# Altium footprint library adafruit.PCBLIB: 630 footprints (part 22 of 40)
Each footprint in its own frame and in the unit in brackets; x right, y up, seen from the top. Pads: shape width x height; smd on the part's side, far side on the other; paste and mask are expansions set on the pad; w line width, h text height; cw(c..) or ccw(c..) is an arc to the next point about the centre after c.
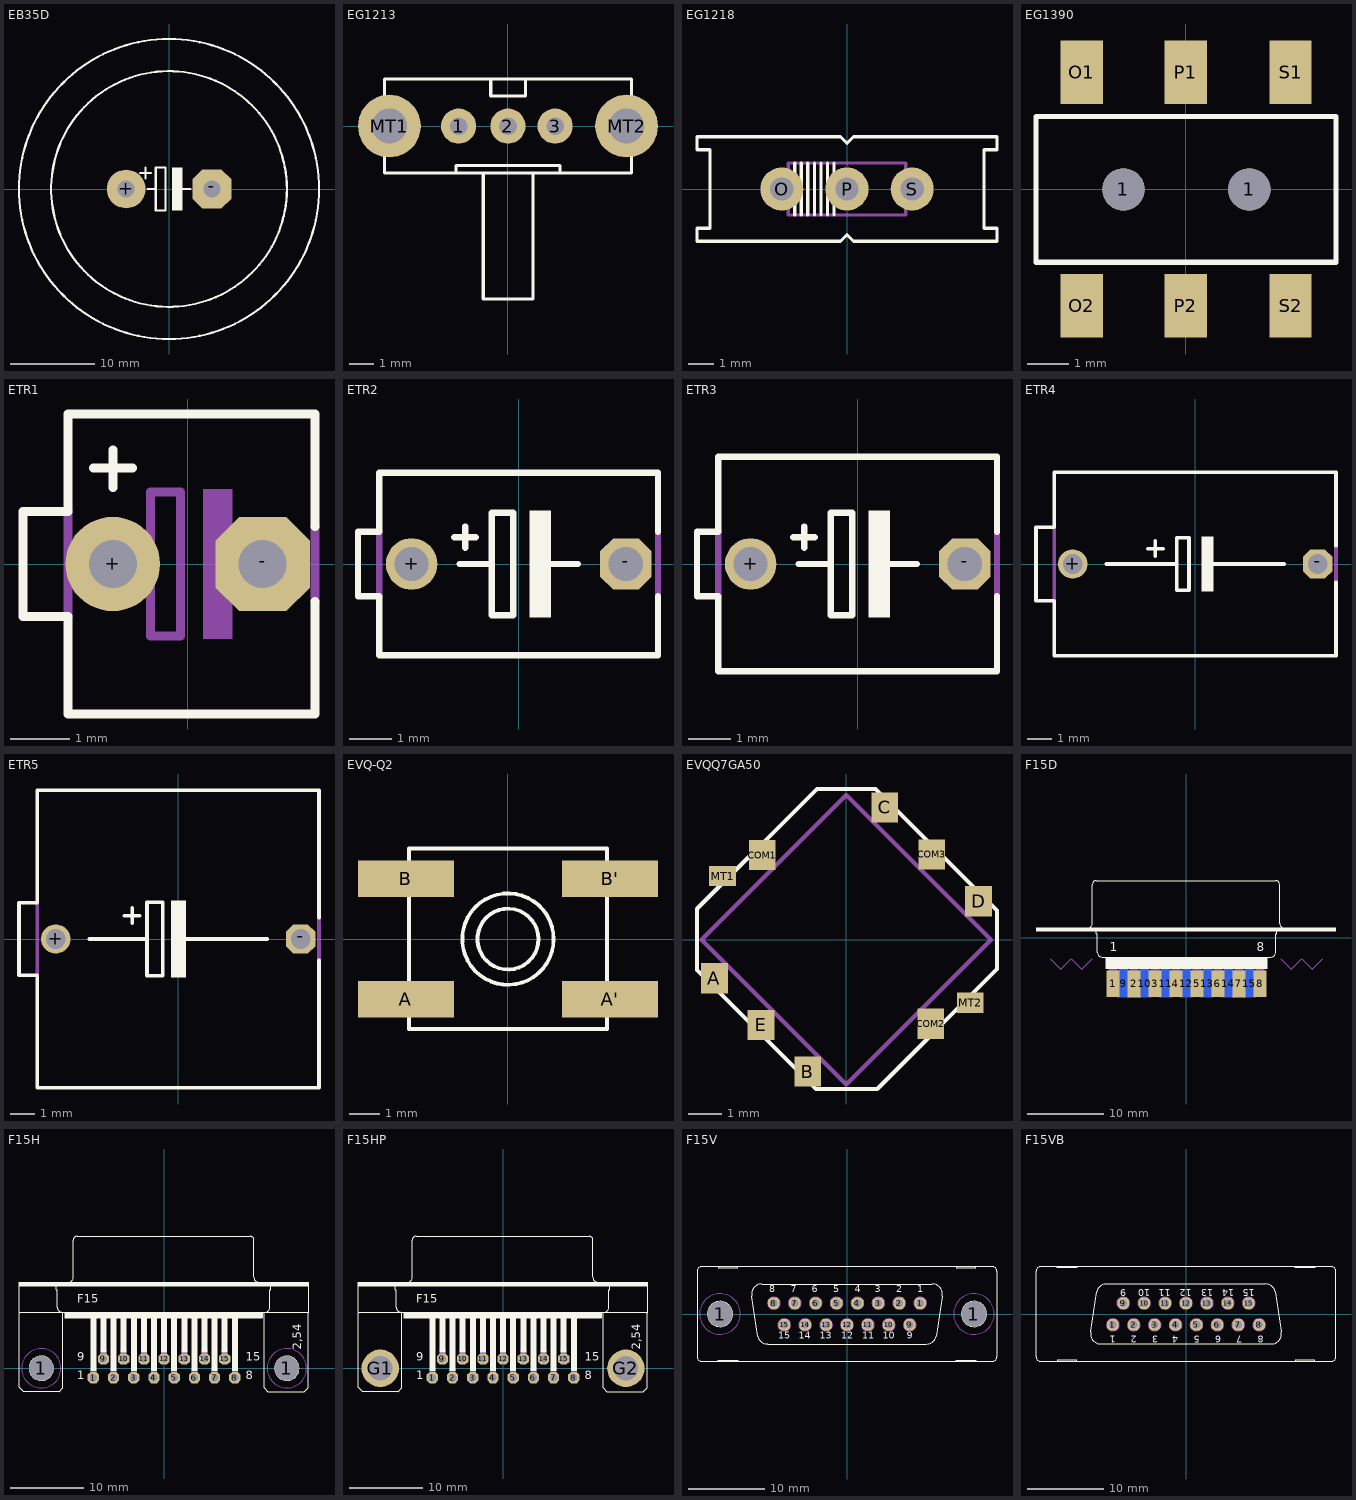
[diagram p21: the footprints below, top view; thin cyan lines are the x and y axes]

## EB35D [mil]
pads (2):
  round 181 hole 79: +(-200,0)
  oct 181x181 hole 79: -(200,0)
Top Overlay:
  circle w10: c0,0 r700
  circle w10: c0,0 r550
  rectangle: 13,-100 63,100
  lines w10: -135,75 -85,75 ; -110,50 -110,100 ; -100,0 -62,0 ; 55,0 100,0 ; -62,0 -62,100 -17,100 -17,-100 -62,-100 -62,0

## EG1213 [mil]
pads (5):
  round 56 hole 28: 1(-78.74,0) 2(0,0) 3(75,0)
  round 100 hole 56: MT1(-188.98,0) MT2(189,0)
Top Overlay:
  lines w5: -82.68,-74.8 -39.37,-74.8 ; -82.68,-74.8 -196.85,-74.8 -196.85,75 -27.56,75 ; -82.68,-74.8 -82.68,-62.99 83,-62.99 83,-74.8 ; -39.37,-74.8 40,-74.8 ; -39.37,-74.8 -39.37,-275.59 40,-275.59 40,-74.8 ; -27.56,75 28,75 ; -27.56,75 -27.56,48 28,48 28,75 ; 28,75 197,75 197,-74.8 83,-74.8 ; 40,-74.8 83,-74.8

## EG1218 [mil]
pads (3):
  round 66 hole 36: O(-100,0) P(0,0) S(100,0)
Top Overlay:
  lines w5: -80,-40 -80,40 ; -70,-40 -70,40 ; -60,-40 -60,40 ; -50,-40 -50,40 ; -40,-40 -40,40 ; -30,-40 -30,40 ; -20,-40 -20,40 ; -230,-80 -10,-80 0,-70 10,-80 230,-80 230,-60 210,-60 210,60 230,60 230,80 10,80 0,70 -10,80 -230,80 -230,60 -210,60 -210,-60 -230,-60 -230,-80
Mechanical 2:
  lines w5: -90,-40 90,-40 90,40 -90,40 -90,-40

## EG1390 [mil]
pads (8):
  round 40 hole 40: 1(-59.06,0) 1(60,0)
  rect 40x60 smd: O1(-98.43,111) O2(-98.43,-110.24) P1(0,111) P2(0,-110.24) S1(99,111) S2(99,-110.24)
Top Overlay:
  lines w5: -141.73,-68.9 142,-68.9 142,69 -141.73,69 -141.73,-68.9

## ETR1 [mil]
pads (2):
  round 63 hole 32: +(-50,0)
  oct 63x63 hole 32: -(50,0)
Top Overlay:
  lines w6: -63,64 -37,64 ; -50,51 -50,76 ; 85,-25 85,-100 -80,-100 -80,-35 -110,-35 -110,35 -80,35 -80,100 85,100 85,25
Mechanical 16:
  rectangle: 10,-50 30,50
  lines w6: -80,-35 -80,35 ; -65,0 -25,0 ; 25,0 65,0 ; 85,-25 85,25 ; -25,0 -25,-48 -5,-48 -5,48 -25,48 -25,0

## ETR2 [mil]
pads (2):
  round 48 hole 32: +(-100,0)
  oct 48x48 hole 32: -(100,0)
Top Overlay:
  rectangle: 10,-50 30,50
  lines w6: -60,25 -40,25 ; -55,0 -25,0 ; -50,15 -50,35 ; 25,0 55,0 ; 130,-30 130,-85 -130,-85 -130,-30 -150,-30 -150,30 -130,30 -130,85 130,85 130,30 ; -25,0 -25,-48 -5,-48 -5,48 -25,48 -25,0
Mechanical 16:
  lines w6: -130,-30 -130,30 ; 130,-30 130,30

## ETR3 [mil]
pads (2):
  round 48 hole 32: +(-100,0)
  oct 48x48 hole 32: -(100,0)
Top Overlay:
  rectangle: 10,-50 30,50
  lines w6: -60,25 -40,25 ; -55,0 -25,0 ; -50,15 -50,35 ; 25,0 55,0 ; 130,-30 130,-100 -130,-100 -130,-30 -150,-30 -150,30 -130,30 -130,100 130,100 130,30 ; -25,0 -25,-48 -5,-48 -5,48 -25,48 -25,0
Mechanical 16:
  lines w6: -130,-30 -130,30 ; 130,-30 130,30

## ETR4 [mil]
pads (2):
  round 48 hole 32: +(-200,0)
  oct 48x48 hole 32: -(200,0)
Top Overlay:
  rectangle: 10,-45 30,45
  lines w6: -145,0 -30,0 ; -77,25 -52,25 ; -65,13 -65,38 ; 20,0 145,0 ; 230,-30 230,-150 -230,-150 -230,-60 -260,-60 -260,60 -230,60 -230,150 230,150 230,30 ; -30,0 -30,43 -10,43 -10,-43 -30,-43 -30,0
Mechanical 16:
  lines w6: -230,-60 -230,60 ; 230,-30 230,30

## ETR5 [mil]
pads (2):
  round 48 hole 32: +(-200,0)
  oct 48x48 hole 32: -(200,0)
Top Overlay:
  rectangle: -12,-63 13,63
  lines w6: -145,0 -51,0 ; -88,38 -63,38 ; -75,26 -75,51 ; 0,0 145,0 ; 230,-35 230,-243 -230,-243 -230,-59 -260,-59 -260,59 -230,59 -230,243 230,243 230,35 ; -51,0 -51,60 -25,60 -25,-60 -51,-60 -51,0
Mechanical 16:
  lines w6: -230,-59 -230,59 ; 230,-35 230,35

## EVQ-Q2 [mil]
pads (4):
  rect 126x48 smd: A(-133.86,-78.74) A'(134,-78.74) B(-133.86,79) B'(134,79)
Top Overlay:
  circle w5: c0,0 r60
  circle w5: c0,0 r40
  lines w5: -129.92,-118.11 130,-118.11 130,119 -129.92,119 -129.92,-118.11

## EVQQ7GA50 [mil]
pads (10):
  rect 32x36 smd: A(-157.29,-45.93) B(-45.93,-157.29) C(46,158) COM1(-100.22,101) COM2(101,-100.22) COM3(102,102) D(158,46) E(-101.61,-101.61)
  rect 32x24 smd: MT1(-147.54,76) MT2(148,-75.16)
Top Overlay:
  lines w5: -178.17,-36.19 -178.17,37 -34.8,180 35,180 180,35 180,-34.8 37,-178.17 -36.19,-178.17 -178.17,-36.19
Mechanical 27:
  lines w5: -172.6,0 0,173 173,0 0,-172.6 -172.6,0

## F15D [mil]
pads (15):
  rect 67x138 smd: 1(-378.01,-237.98) 2(-270,-237.99) 3(-161.99,-237.98) 4(-54.01,-237.98) 5(55,-237.98) 6(162,-237.98) 7(270,-237.99) 8(379,-237.98)
  rect 67x138 smd far side: 9(-324,-238) 10(-216,-238) 11(-108,-238) 12(0,-238) 13(108,-238) 14(216,-238) 15(324,-238)
Top Overlay:
  rectangle: -775,32 770,52
  rectangle: -417.32,-161.42 418,-98.43
  lines w6: -510,48 ccw(c-510,73) -485,73 -485,273 cw(c-465,273) -465,293 460,293 cw(c460,273) 480,273 480,73 ccw(c505,73) 505,48 ; -464,40 -464,20 -459,20 -459,-75 ccw(c-434,-75) -434,-100 ; -434.76,-100 435,-100 ; 434,-100 ccw(c434,-75) 459,-75 459,20 464,20 464,40
  text "1" at -395.07,-85.77 h77.5
  text "8" at 363,-85.77 h77.5
Bottom Overlay:
  text "9" at -302.82,-86.48 h77.5
  text "15" at 341,-86.48 h77.5
Mechanical 13:
  lines w0: -702,-108 -648,-162 -594,-108 -540,-162 -486,-108 ; 486,-108 540,-162 594,-108 648,-162 702,-108
  text "Board" at 504,-100 h77.5
  text "Board" at -704,-100 h77.5
Mechanical 16:
  rectangle: -401.62,-258.27 -354.38,-159.84
  rectangle: -293.62,-258.27 -246.38,-159.84
  rectangle: -185.62,-258.27 -138.38,-159.84
  rectangle: -77.62,-258.27 -30.38,-159.84
  rectangle: 31,-258.27 78,-159.84
  rectangle: 139,-258.27 186,-159.84
  rectangle: 247,-258.27 294,-159.84
  rectangle: 355,-258.27 402,-159.84
  text "F15D" at -462,181 h77.5
Mechanical 30:
  rectangle: -347.62,-258.27 -300.38,-159.84
  rectangle: -239.62,-258.27 -192.38,-159.84
  rectangle: -131.62,-258.27 -84.38,-159.84
  rectangle: -23.62,-258.27 24,-159.84
  rectangle: 85,-258.27 132,-159.84
  rectangle: 193,-258.27 240,-159.84
  rectangle: 301,-258.27 348,-159.84

## F15H [mil]
pads (17):
  round 130 hole 130: 1(-656,0) 1(656,0)
  oct 60x60 hole 40: 1(-378,-50) 2(-270,-50) 3(-162,-50) 4(-54,-50) 5(54,-50) 6(162,-50) 7(270,-50) 8(378,-50) 9(-324,50) 10(-216,50) 11(-108,50) 12(0,50) 13(108,50) 14(216,50) 15(324,50)
Top Overlay:
  circle w6: c-656,0 r65
  circle w6: c656,0 r65
  rectangle: -530,270 525,300
  rectangle: -775,440 770,460
  rectangle: -394,-15 -362,270
  rectangle: -340,85 -308,270
  rectangle: -286,-15 -254,270
  rectangle: -232,85 -200,270
  rectangle: -178,-15 -146,270
  rectangle: -124,85 -92,270
  rectangle: -70,-15 -38,270
  rectangle: -16,85 16,270
  rectangle: 38,-15 70,270
  rectangle: 92,85 124,270
  rectangle: 146,-15 178,270
  rectangle: 200,85 232,270
  rectangle: 254,-15 286,270
  rectangle: 308,85 340,270
  rectangle: 362,-15 394,270
  lines w6: -545,300 cw(c-545,325) -570,325 -570,420 -575,420 -575,440 ; -510,460 ccw(c-510,485) -485,485 -485,685 cw(c-465,685) -465,705 -455,705 450,705 460,705 cw(c460,685) 480,685 480,485 ccw(c505,485) 505,460 ; 540,300 ccw(c540,325) 565,325 565,420 570,420 570,440 ; -775,300 -575,300 -540,300 ; -775,300 -775,420 -775,440 ; -775,300 -775,295 -775,-100 -750,-125 -560,-125 -540,-105 -540,300 ; -775,440 -775,460 -470,460 465,460 770,460 770,440 ; -775,440 -675,440 -575,440 ; -575,440 570,440 ; -540,300 -530,300 ; -530,300 -530,270 525,270 525,300 ; -530,300 525,300 ; 525,300 535,300 ; 535,300 570,300 770,300 ; 535,300 535,-105 555,-125 750,-125 770,-105 770,295 770,300 ; 570,440 670,440 770,440 ; 770,300 770,420 770,440
  text "1" at -465,-75 h77.5
  text "8" at 435,-75 h77.5
  text "9" at -465,25 h77.5
  text "15" at 435,25 h77.5
  text "2,54" at 750,100 h77.5
  text "F15" at -465,335 h77.5
Mechanical 9:
  circle w0: c-656,0 r105
  circle w0: c656,0 r105
Mechanical 10:
  circle w0: c-656,0 r105
  circle w0: c656,0 r105
Mechanical 16:
  lines w32: -378,-45 -378,-5 ; -324,55 -324,95 ; -270,-45 -270,-5 ; -216,55 -216,95 ; -162,-45 -162,-5 ; -108,55 -108,95 ; -54,-45 -54,-5 ; 0,55 0,95 ; 54,-45 54,-5 ; 108,55 108,95 ; 162,-45 162,-5 ; 216,55 216,95 ; 270,-45 270,-5 ; 324,55 324,95 ; 378,-45 378,-5

## F15HP [mil]
pads (17):
  oct 60x60 hole 40: 1(-378,-50) 2(-270,-50) 3(-162,-50) 4(-54,-50) 5(54,-50) 6(162,-50) 7(270,-50) 8(378,-50) 9(-324,50) 10(-216,50) 11(-108,50) 12(0,50) 13(108,50) 14(216,50) 15(324,50)
  round 200 hole 130: G1(-656,0) G2(656,0)
Top Overlay:
  circle w6: c-656,0 r65
  circle w6: c656,0 r65
  rectangle: -530,270 525,300
  rectangle: -775,440 770,460
  rectangle: -394,-15 -362,270
  rectangle: -340,85 -308,270
  rectangle: -286,-15 -254,270
  rectangle: -232,85 -200,270
  rectangle: -178,-15 -146,270
  rectangle: -124,85 -92,270
  rectangle: -70,-15 -38,270
  rectangle: -16,85 16,270
  rectangle: 38,-15 70,270
  rectangle: 92,85 124,270
  rectangle: 146,-15 178,270
  rectangle: 200,85 232,270
  rectangle: 254,-15 286,270
  rectangle: 308,85 340,270
  rectangle: 362,-15 394,270
  lines w6: -545,300 cw(c-545,325) -570,325 -570,420 -575,420 -575,440 ; -510,460 ccw(c-510,485) -485,485 -485,685 cw(c-465,685) -465,705 -455,705 450,705 460,705 cw(c460,685) 480,685 480,485 ccw(c505,485) 505,460 ; 540,300 ccw(c540,325) 565,325 565,420 570,420 570,440 ; -775,300 -575,300 -540,300 ; -775,300 -775,420 -775,440 ; -775,300 -775,295 -775,-100 -750,-125 -560,-125 -540,-105 -540,300 ; -775,440 -775,460 -470,460 465,460 770,460 770,440 ; -775,440 -675,440 -575,440 ; -575,440 570,440 ; -540,300 -530,300 ; -530,300 -530,270 525,270 525,300 ; -530,300 525,300 ; 525,300 535,300 ; 535,300 570,300 770,300 ; 535,300 535,-105 555,-125 750,-125 770,-105 770,295 770,300 ; 570,440 670,440 770,440 ; 770,300 770,420 770,440
  text "1" at -465,-75 h77.5
  text "8" at 435,-75 h77.5
  text "9" at -465,25 h77.5
  text "15" at 435,25 h77.5
  text "2,54" at 750,100 h77.5
  text "F15" at -465,335 h77.5
Mechanical 16:
  lines w32: -378,-45 -378,-5 ; -324,55 -324,95 ; -270,-45 -270,-5 ; -216,55 -216,95 ; -162,-45 -162,-5 ; -108,55 -108,95 ; -54,-45 -54,-5 ; 0,55 0,95 ; 54,-45 54,-5 ; 108,55 108,95 ; 162,-45 162,-5 ; 216,55 216,95 ; 270,-45 270,-5 ; 324,55 324,95 ; 378,-45 378,-5

## F15V [mil]
pads (17):
  round 130 hole 130: 1(-656,0) 1(656,0)
  oct 60x60 hole 40: 1(378,56) 2(270,56) 3(162,56) 4(54,56) 5(-54,56) 6(-162,56) 7(-270,56) 8(-378,56) 9(324,-56) 10(216,-56) 11(108,-56) 12(0,-56) 13(-108,-56) 14(-216,-56) 15(-324,-56)
Top Overlay:
  circle w6: c-656,0 r65
  circle w6: c656,0 r65
  lines w6: -492,92 -461,-116 ; -491.97,92 cw(c-440.16,102.2) -440,155 440,155 cw(c440.22,102.06) 492,91 461,-115 ; -461.3,-115.33 ccw(c-410,-102) -410,-155 410,-155 ccw(c410.23,-101.7) 462,-114.37 ; -665,-245 -665,-240 -565,-240 -565,-245 ; -665,-245 -565,-245 ; -665,-245 -750,-245 cw(c-750,-220) -775,-220 -775,220 cw(c-750,220) -750,245 -665,245 ; -665,245 -665,240 -565,240 -565,245 ; -665,245 -565,245 ; -565,-245 565,-245 ; -565,245 565,245 ; 565,-245 565,-240 665,-240 665,-245 ; 565,-245 665,-245 ; 565,245 565,240 665,240 665,245 ; 565,245 665,245 ; 665,-245 750,-245 ccw(c750,-220) 775,-220 775,220 ccw(c750,220) 750,245 665,245
  text "1" at 364,100 h60.45
  text "2" at 254,100 h60.45
  text "3" at 144,100 h60.45
  text "4" at 39,100 h60.45
  text "5" at -71,100 h60.45
  text "6" at -181,100 h60.45
  text "7" at -291,100 h60.45
  text "8" at -401,100 h60.45
  text "9" at 309,-140 h60.45
  text "10" at 185,-140 h60.45
  text "11" at 80,-140 h60.45
  text "12" at -30,-140 h60.45
  text "13" at -140,-140 h60.45
  text "14" at -250,-140 h60.45
  text "15" at -355,-140 h60.45
Mechanical 9:
  circle w0: c656,0 r105
  circle w0: c-656,0 r105
Mechanical 10:
  circle w0: c656,0 r105
  circle w0: c-656,0 r105
Mechanical 16:
  circle w10: c108,-56 r30
  circle w10: c162,56 r30
  circle w10: c216,-56 r30
  circle w10: c270,56 r30
  circle w10: c54,56 r30
  circle w10: c0,-56 r30
  circle w10: c-54,56 r30
  circle w10: c-108,-56 r30
  circle w10: c-162,56 r30
  circle w10: c378,56 r30
  circle w10: c324,-56 r30
  circle w10: c-270,56 r30
  circle w10: c-378,56 r30
  circle w10: c-216,-56 r30
  circle w10: c-324,-56 r30

## F15VB [mil]
pads (15):
  oct 60x60 hole 40: 1(-378,-56) 2(-270,-56) 3(-162,-56) 4(-54,-56) 5(54,-56) 6(162,-56) 7(270,-56) 8(378,-56) 9(-324,56) 10(-216,56) 11(-108,56) 12(0,56) 13(108,56) 14(216,56) 15(324,56)
Top Overlay:
  lines w6: -492,-91 -461,115 ; -491.79,-90.7 ccw(c-440,-101.99) -440,-155 440,-155 ccw(c440.01,-101.99) 492,-91.61 ; -461.52,115 cw(c-410.39,102.31) -410,155 410,155 cw(c410.78,101.88) 462,116 ; 461,116 492,-92 ; -665,-245 -750,-245 cw(c-750,-220) -775,-220 -775,220 cw(c-750,220) -750,245 -665,245 ; -665,-245 -665,-240 -565,-240 -565,-245 ; -665,-245 -565,-245 ; -665,245 -565,245 ; -665,245 -665,240 -565,240 -565,245 ; -565,-245 565,-245 ; -565,245 565,245 ; 565,-245 565,-240 665,-240 665,-245 ; 565,-245 665,-245 ; 565,245 665,245 ; 565,245 565,240 665,240 665,245 ; 665,-245 750,-245 ccw(c750,-220) 775,-220 775,220 ccw(c750,220) 750,245 665,245
  text "1" at -364,-100 h60.45
  text "2" at -254,-100 h60.45
  text "3" at -144,-100 h60.45
  text "4" at -39,-100 h60.45
  text "5" at 71,-100 h60.45
  text "6" at 181,-100 h60.45
  text "7" at 291,-100 h60.45
  text "8" at 401,-100 h60.45
  text "9" at -309,140 h60.45
  text "10" at -185,140 h60.45
  text "11" at -80,140 h60.45
  text "12" at 30,140 h60.45
  text "13" at 140,140 h60.45
  text "14" at 250,140 h60.45
  text "15" at 355,140 h60.45
Mechanical 16:
  circle w10: c-108,56 r30
  circle w10: c-162,-56 r30
  circle w10: c-216,56 r30
  circle w10: c-270,-56 r30
  circle w10: c-54,-56 r30
  circle w10: c0,56 r30
  circle w10: c54,-56 r30
  circle w10: c108,56 r30
  circle w10: c162,-56 r30
  circle w10: c-378,-56 r30
  circle w10: c-324,56 r30
  circle w10: c270,-56 r30
  circle w10: c378,-56 r30
  circle w10: c216,56 r30
  circle w10: c324,56 r30